# Altium footprint library JS102011SAQN.PcbLib: 1 footprints
Each footprint in its own frame and in the unit in brackets; x right, y up, seen from the top. Pads: shape width x height; smd on the part's side, far side on the other; paste and mask are expansions set on the pad; w line width, h text height; cw(c..) or ccw(c..) is an arc to the next point about the centre after c.
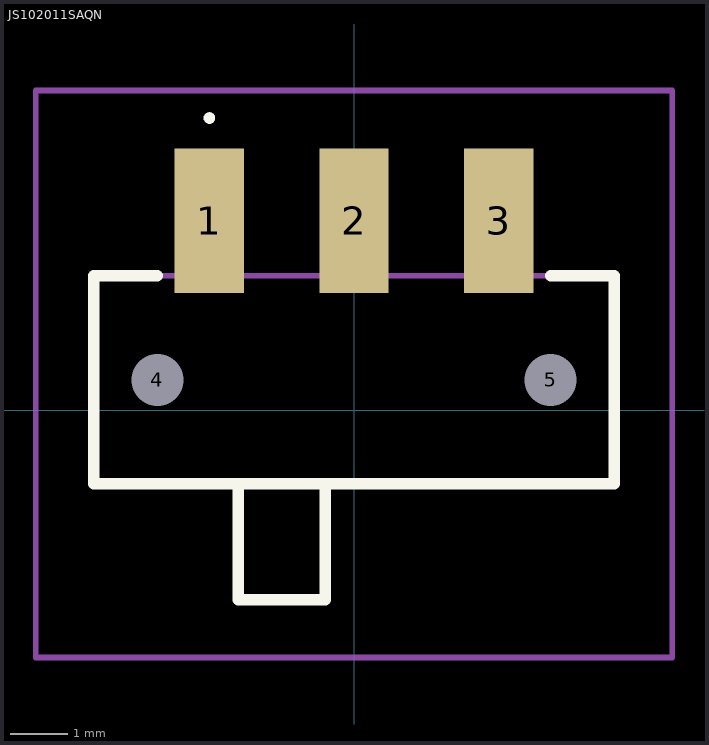
[diagram p0: the footprint, top view; thin cyan lines are the x and y axes]

## JS102011SAQN [mm]
pads (5):
  rect 1.2x2.5 smd: 1(-2.5,3.275) 2(0,3.275) 3(2.5,3.275)
  round 0.45 hole 0.9 unplated: 4(-3.4,0.525) 5(3.4,0.525)
Top Overlay:
  lines w0.1: -2.5,5 -2.5,5 ; -2.5,5 ccw(c-2.5,5.05) -2.5,5.1 ; -2.5,5 cw(c-2.5,5.05) -2.5,5.1 ; -2.5,5.1 -2.5,5.1
  lines w0.2: -3.4,2.325 -4.5,2.325 -4.5,-1.275 4.5,-1.275 4.5,2.325 3.4,2.325 ; -2,-1.275 -2,-3.275 -0.5,-3.275 -0.5,-1.275
Mechanical 15:
  lines w0.1: -2,-1.275 -2,-3.275 -0.5,-3.275 -0.5,-1.275 ; -4.5,-1.275 4.5,-1.275 4.5,2.325 -4.5,2.325 -4.5,-1.275
Mechanical 20:
  lines w0.1: -5.5,-4.275 5.5,-4.275 5.5,5.525 -5.5,5.525 -5.5,-4.275